# Altium footprint library K.PcbLib: 8 footprints
Each footprint in its own frame and in the unit in brackets; x right, y up, seen from the top. Pads: shape width x height; smd on the part's side, far side on the other; paste and mask are expansions set on the pad; w line width, h text height; cw(c..) or ccw(c..) is an arc to the next point about the centre after c.
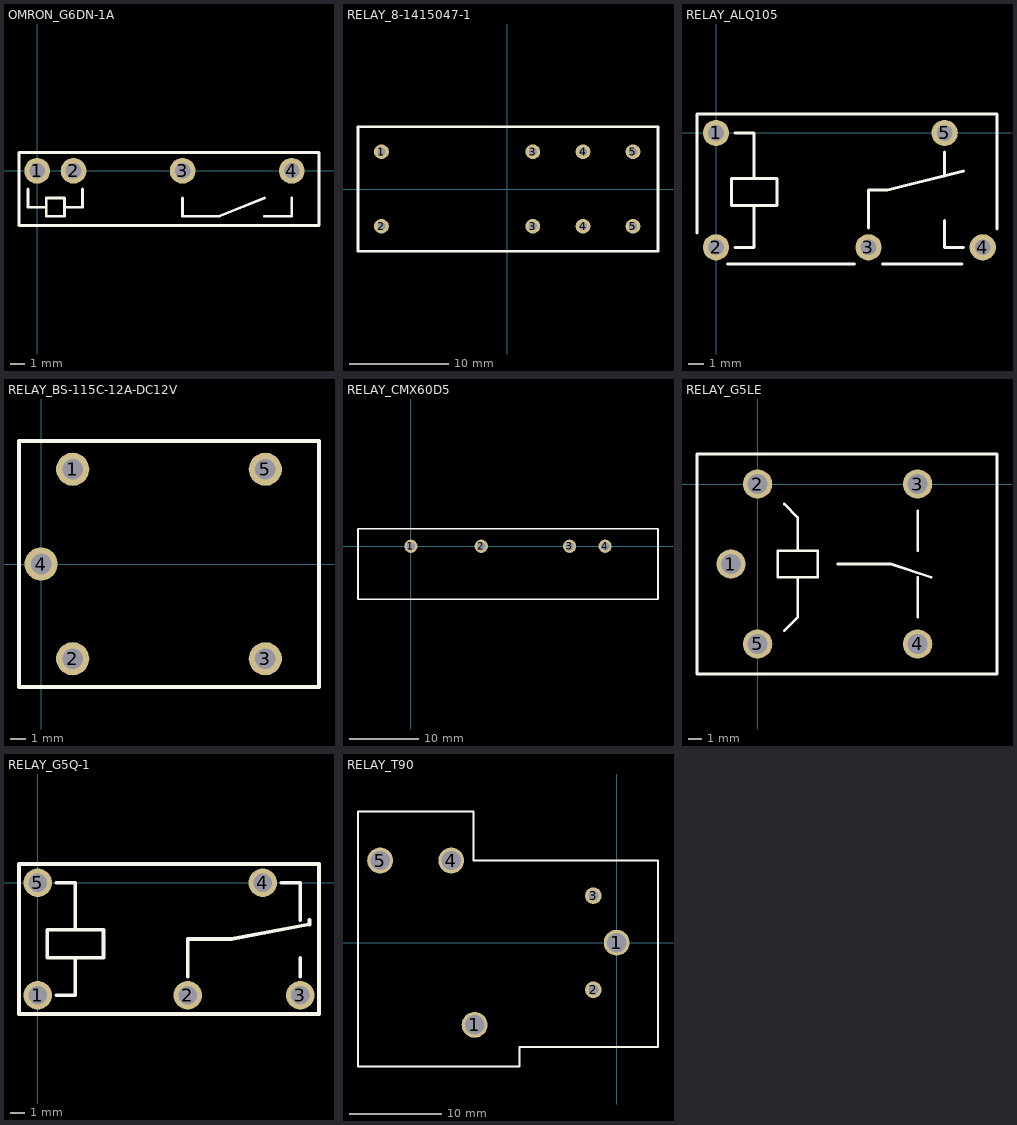
[diagram p0: the footprints below, top view; thin cyan lines are the x and y axes]

## OMRON_G6DN-1A [mm] "Omron Electronics Inc-EMC Div 5x20mm height 12mm"
height 12
pads (4):
  round 1.8 hole 1.1: 1(0,0) 2(2.54,0) 3(10.16,0) 4(17.78,0)
Top Overlay:
  lines w0.2: -0.635,-1.27 -0.635,-2.54 0.635,-2.54 ; 1.905,-2.54 3.175,-2.54 3.175,-1.27 ; 10.16,-1.905 10.16,-3.175 12.7,-3.175 15.875,-1.905 ; 15.875,-3.175 17.78,-3.175 17.78,-1.905 ; 0.635,-2.54 0.635,-3.175 1.905,-3.175 1.905,-1.905 0.635,-1.905 0.635,-2.54 ; -1.27,-3.81 -1.27,0 -1.27,1.27 19.685,1.27 19.685,-3.81 -1.27,-3.81
3D body: height 12.5, standoff 0, extent -1.27,-3.81 19.685,1.27

## RELAY_8-1415047-1 [mm] "RELAY_8-1415047-1"
pads (8):
  round 1.5 hole 0.8: 1(-12.662,3.75) 2(-12.662,-3.75) 3(2.578,-3.75) 3(2.578,3.75) 4(7.633,-3.75) 4(7.633,3.75) 5(12.662,-3.75) 5(12.662,3.75)
Top Overlay:
  lines w0.254: -15.017,-6.275 7.633,-6.275 15.183,-6.275 15.183,3.75 15.183,6.275 7.633,6.275 -15.017,6.275 -15.017,3.75 -15.017,-6.275
3D body: height 15.7, standoff 0, extent -15.017,-6.275 15.158,6.25

## RELAY_ALQ105 [mm] "RELAY"
height 15.6
pads (5):
  round 1.75 hole 1.05: 1(0,0) 2(0,-7.62) 3(10.16,-7.62) 4(17.78,-7.62) 5(15.24,0)
Top Overlay:
  lines w0.2: -1.27,-6.68 -1.27,1.27 18.73,1.27 18.73,-6.416 ; 0.78,-8.73 9.246,-8.73 ; 1.27,-7.62 2.54,-7.62 2.54,-4.826 ; 1.27,0 2.54,0 2.54,-3.048 ; 10.16,-6.35 10.16,-3.81 11.43,-3.81 16.51,-2.54 ; 11.1,-8.738 16.408,-8.738 ; 15.24,-5.842 15.24,-7.62 16.51,-7.62 ; 15.24,-2.857 15.24,-1.27 ; 2.54,-3.048 1.016,-3.048 1.016,-4.826 4.064,-4.826 4.064,-3.048 2.54,-3.048
3D body: height 15.6, standoff 0, extent -1.27,-8.73 18.73,1.27

## RELAY_BS-115C-12A-DC12V [mm]
pads (5):
  round 2.1 hole 1.3: 1(2,6) 2(2,-6) 3(14.2,-6) 4(0,0) 5(14.2,6)
Top Overlay:
  lines w0.254: -1.4,-7.8 -1.4,-6 -1.4,7.8 17.6,7.8 17.6,6 17.6,-7.8 -1.4,-7.8
3D body: height 15.2, standoff 0, extent -1.4,-7.8 17.6,7.8

## RELAY_CMX60D5 [mm]
pads (4):
  round 1.9 hole 1.2: 1(0,0) 2(10.1,0) 3(22.8,0) 4(27.9,0)
Top Overlay:
  lines w0.254: -7.6,2.5 -7.6,-7.6 35.5,-7.6 35.5,2.5 ; -7.6,2.5 0,2.5 27.9,2.5 35.5,2.5 ; -7.6,2.5 35.5,2.5
3D body: height 25.4, standoff 1.3, extent -7.6,-7.6 35.5,2.5

## RELAY_G5LE [mm]
height 16
pads (5):
  round 2.2 hole 1.5: 1(-2,-6) 2(0,0) 3(12,0) 4(12,-12) 5(0,-12)
Top Overlay:
  lines w0.2: 2,-11 3,-10 3,-7 ; 2,-1.5 3,-2.5 3,-5 1.5,-5 ; 6,-6 10,-6 13,-7 ; 12,-10 12,-7 ; 12,-5 12,-2 ; 1.5,-5 4.5,-5 4.5,-7 1.5,-7 1.5,-5 ; -4.55,-14.25 17.95,-14.25 17.95,2.25 -4.55,2.25 -4.55,-14.25
3D body: height 16, standoff 2, extent -4.55,-14.25 17.95,2.25

## RELAY_G5Q-1 [mm] "RELAY GEN PURPOSE SPDT OMRON"
pads (5):
  round 1.95 hole 1.25: 1(0,-7.62) 2(10.16,-7.62) 3(17.78,-7.62) 4(15.24,0) 5(0,0)
Top Overlay:
  lines w0.254: 1.27,-7.62 2.54,-7.62 2.54,-5.08 ; 1.27,0 2.54,0 2.54,-1.905 2.54,-3.175 ; 10.16,-6.35 10.16,-3.81 13.132,-3.81 18.415,-2.819 18.415,-2.515 ; 16.51,0 17.78,0 17.78,-2.54 ; 17.78,-6.35 17.78,-5.08 ; 2.54,-3.175 0.635,-3.175 0.635,-5.08 4.445,-5.08 4.445,-3.175 2.54,-3.175 ; -1.27,-8.89 -1.27,1.27 19.05,1.27 19.05,-8.89 -1.27,-8.89
3D body: height 15.8, standoff 1.3, extent -1.27,-8.89 19.05,1.27

## RELAY_T90 [mm] "INDUSTRIAL STANDART T90"
height 17
pads (6):
  round 2.8 hole 2.1: 1(-15.388,-8.9) 1(0,0) 4(-17.925,8.9) 5(-25.625,8.9)
  round 1.8 hole 1.1: 2(-2.525,-5.1) 3(-2.525,5.1)
Top Overlay:
  lines w0.2: -28.025,-13.4 -28.025,14.2 -15.525,14.2 -15.525,8.9 4.475,8.9 4.475,-11.3 -10.525,-11.3 -10.525,-13.4 -28.025,-13.4
3D body: height 20.5, standoff 0, extent -28.025,-13.4 4.475,14.2